# Altium schematic symbol library MCU_Module_LattePanda.SchLib: 1 symbol
Pins are listed as number, name and electrical type; pins without a type are passive.

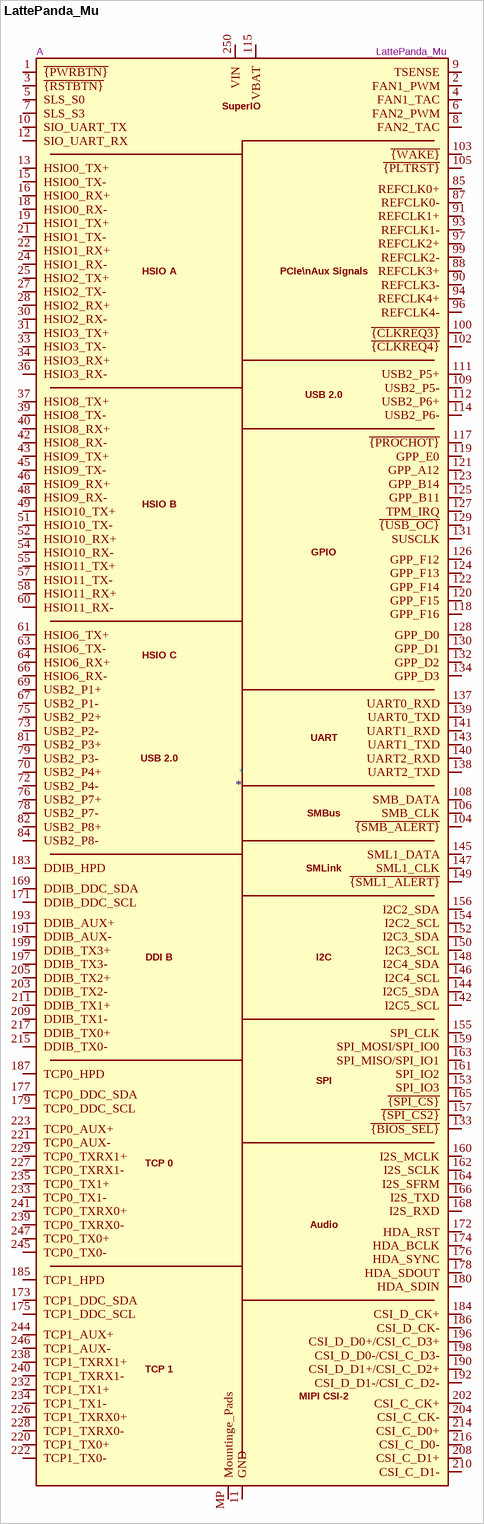
[diagram p0: symbol LattePanda_Mu]

## LattePanda_Mu
designator *  value LattePanda_Mu  Reference: A
A micro computing module with x86 processer, RAM and eMMC.; ki_keywords: lattepanda mu x86 compute module; ki_fp_filters: *LattePanda*; Footprint: Module_LattePanda:LattePanda_Module_H8.0mm_Horizontal; Description_: A micro computing module with x86 processer, RAM and eMMC.
pins: 1 ~{{PWRBTN}}, 2 FAN1_PWM, 3 ~{{RSTBTN}}, 4 FAN1_TAC, 5 SLS_S0, 6 FAN2_PWM, 7 SLS_S3, 8 FAN2_TAC, 9 TSENSE, 10 SIO_UART_TX, 11 GND, 12 SIO_UART_RX, 13 HSIO0_TX+, 14 GND hidden, 15 HSIO0_TX-, 16 HSIO0_RX+, 17 GND hidden, 18 HSIO0_RX-, 19 HSIO1_TX+, 20 GND hidden, 21 HSIO1_TX-, 22 HSIO1_RX+, 23 GND hidden, 24 HSIO1_RX-, 25 HSIO2_TX+, 26 GND hidden, 27 HSIO2_TX-, 28 HSIO2_RX+, 29 GND hidden, 30 HSIO2_RX-, 31 HSIO3_TX+, 32 GND hidden, 33 HSIO3_TX-, 34 HSIO3_RX+, 35 GND hidden, 36 HSIO3_RX-, 37 HSIO8_TX+, 38 GND hidden, 39 HSIO8_TX-, 40 HSIO8_RX+, 41 GND hidden, 42 HSIO8_RX-, 43 HSIO9_TX+, 44 GND hidden, 45 HSIO9_TX-, 46 HSIO9_RX+, 47 GND hidden, 48 HSIO9_RX-, 49 HSIO10_TX+, 50 GND hidden, 51 HSIO10_TX-, 52 HSIO10_RX+, 53 GND hidden, 54 HSIO10_RX-, 55 HSIO11_TX+, 56 GND hidden, 57 HSIO11_TX-, 58 HSIO11_RX+, 59 GND hidden, 60 HSIO11_RX-, 61 HSIO6_TX+, 62 GND hidden, 63 HSIO6_TX-, 64 HSIO6_RX+, 65 GND hidden, 66 HSIO6_RX-, 67 USB2_P1-, 68 GND hidden, 69 USB2_P1+, 70 USB2_P4+, 71 GND hidden, 72 USB2_P4-, 73 USB2_P2-, 74 GND hidden, 75 USB2_P2+, 76 USB2_P7+, 77 GND hidden, 78 USB2_P7-, 79 USB2_P3-, 80 GND hidden, 81 USB2_P3+, 82 USB2_P8+, 83 GND hidden, 84 USB2_P8-, 85 REFCLK0+, 86 GND hidden, 87 REFCLK0-, 88 REFCLK3+, 89 GND hidden, 90 REFCLK3-, 91 REFCLK1+, 92 GND hidden, 93 REFCLK1-, 94 REFCLK4+, 95 GND hidden, 96 REFCLK4-, 97 REFCLK2+, 98 GND hidden, 99 REFCLK2-, 100 ~{{CLKREQ3}}, 101 GND hidden, 102 ~{{CLKREQ4}}, 103 ~{{WAKE}}, 104 ~{{SMB_ALERT}}, 105 ~{{PLTRST}}, 106 SMB_CLK, 107 GND hidden, 108 SMB_DATA, 109 USB2_P5-, 110 GND hidden, 111 USB2_P5+, 112 USB2_P6+, 113 GND hidden, 114 USB2_P6-, 115 VBAT, 116 GND hidden, 117 ~{{PROCHOT}}, 118 GPP_F16, 119 GPP_E0, 120 GPP_F15, 121 GPP_A12, 122 GPP_F14, 123 GPP_B14, 124 GPP_F13, 125 GPP_B11, 126 GPP_F12, 127 TPM_IRQ, 128 GPP_D0, 129 ~{{USB_OC}}, 130 GPP_D1, 131 SUSCLK, 132 GPP_D2, 133 ~{{BIOS_SEL}}, 134 GPP_D3, 135 GND hidden, 136 GND hidden, 137 UART0_RXD, 138 UART2_TXD, 139 UART0_TXD, 140 UART2_RXD, 141 UART1_RXD, 142 I2C5_SCL, 143 UART1_TXD, 144 I2C5_SDA, 145 SML1_DATA, 146 I2C4_SCL, 147 SML1_CLK, 148 I2C4_SDA, 149 ~{{SML1_ALERT}}, 150 I2C3_SCL, 151 GND hidden, 152 I2C3_SDA, 153 SPI_IO3, 154 I2C2_SCL, 155 SPI_CLK, 156 I2C2_SDA, 157 ~{{SPI_CS2}}, 158 GND hidden, 159 SPI_MOSI/SPI_IO0, 160 I2S_MCLK, 161 SPI_IO2, 162 I2S_SCLK, 163 SPI_MISO/SPI_IO1, 164 I2S_SFRM, 165 ~{{SPI_CS}}, 166 I2S_TXD, 167 GND hidden, 168 I2S_RXD, 169 DDIB_DDC_SDA, 170 GND hidden, 171 DDIB_DDC_SCL, 172 HDA_RST, 173 TCP1_DDC_SDA, 174 HDA_BCLK, 175 TCP1_DDC_SCL, 176 HDA_SYNC, 177 TCP0_DDC_SDA, 178 HDA_SDOUT, 179 TCP0_DDC_SCL, 180 HDA_SDIN, 181 GND hidden, 182 GND hidden, 183 DDIB_HPD, 184 CSI_D_CK+, 185 TCP1_HPD, 186 CSI_D_CK-, 187 TCP0_HPD, 188 GND hidden, 189 GND hidden, 190 CSI_D_D1+/CSI_C_D2+, 191 DDIB_AUX-, 192 CSI_D_D1-/CSI_C_D2-, 193 DDIB_AUX+, 194 GND hidden, 195 GND hidden, 196 CSI_D_D0+/CSI_C_D3+, 197 DDIB_TX3-, 198 CSI_D_D0-/CSI_C_D3-, 199 DDIB_TX3+, 200 GND hidden, 201 GND hidden, 202 CSI_C_CK+, 203 DDIB_TX2-, 204 CSI_C_CK-, 205 DDIB_TX2+, 206 GND hidden, 207 GND hidden, 208 CSI_C_D1+, 209 DDIB_TX1-, 210 CSI_C_D1-, 211 DDIB_TX1+, 212 GND hidden, 213 GND hidden, 214 CSI_C_D0+, 215 DDIB_TX0-, 216 CSI_C_D0-, 217 DDIB_TX0+, 218 GND hidden, 219 GND hidden, 220 TCP1_TX0+, 221 TCP0_AUX-, 222 TCP1_TX0-, 223 TCP0_AUX+, 224 GND hidden, 225 GND hidden, 226 TCP1_TXRX0+, 227 TCP0_TXRX1-, 228 TCP1_TXRX0-, 229 TCP0_TXRX1+, 230 GND hidden, 231 GND hidden, 232 TCP1_TX1+, 233 TCP0_TX1-, 234 TCP1_TX1-, 235 TCP0_TX1+, 236 GND hidden, 237 GND hidden, 238 TCP1_TXRX1+, 239 TCP0_TXRX0-, 240 TCP1_TXRX1-, 241 TCP0_TXRX0+, 242 GND hidden, 243 GND hidden, 244 TCP1_AUX+, 245 TCP0_TX0-, 246 TCP1_AUX-, 247 TCP0_TX0+, 248 GND hidden, 249 GND hidden, 250 VIN, 251 VIN hidden, 252 VIN hidden, 253 VIN hidden, 254 VIN hidden, 255 VIN hidden, 256 VIN hidden, 257 VIN hidden, 258 VIN hidden, 259 VIN hidden, 260 VIN hidden, MP Mountinge_Pads
text: SuperIO; HSIO A; PCIe\nAux Signals; USB 2.0; HSIO B; GPIO; HSIO C; UART; SMBus; SMLink; DDI B; I2C; SPI; TCP 0; Audio; TCP 1; MIPI CSI-2